# EAGLE library part 10M08SA (library New_Parts)
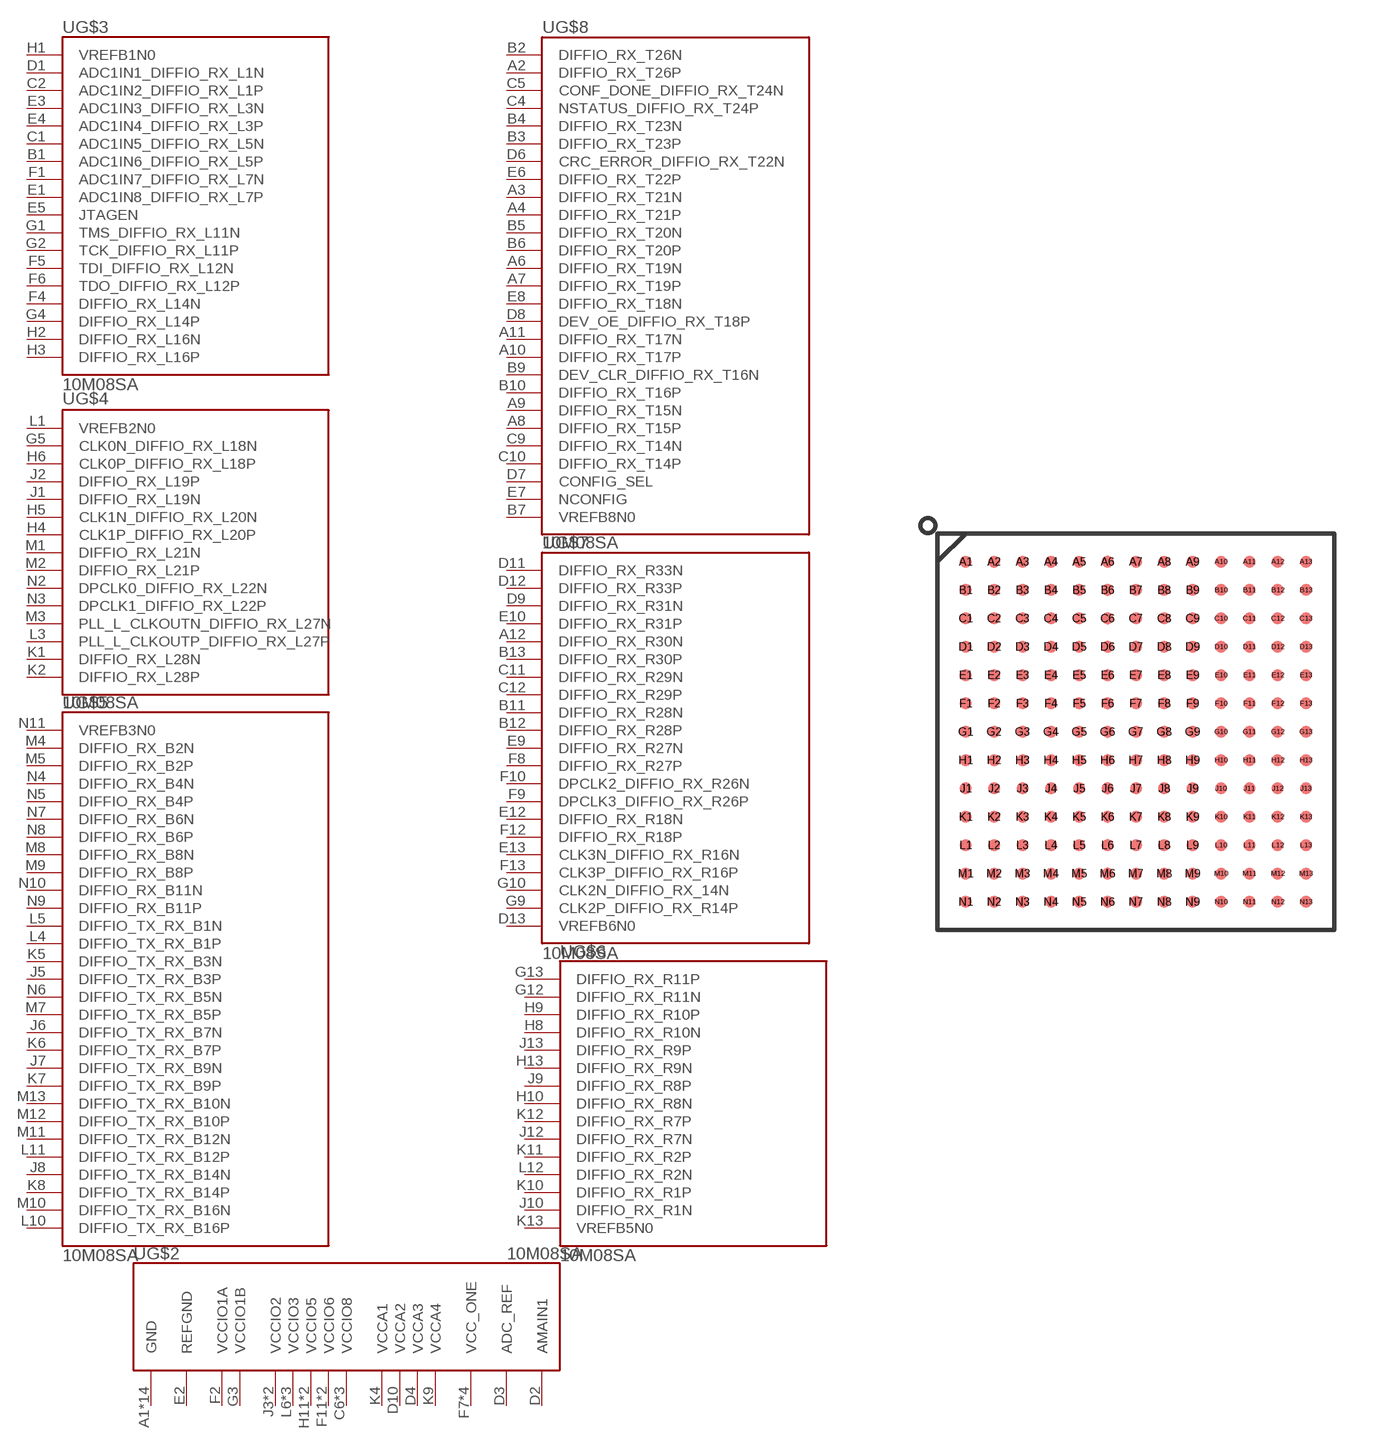
[diagram p1: symbol with the pads of UBGA_169; footprint UBGA_169]

Designator prefix U; gates G$2=10M08SA_PWR G$3=10M08SA_B1 G$4=10M08SA_B2 G$5=10M08SA_B3 G$6=10M08SA_B5 G$7=10M08SA_B6 G$8=10M08SA_B8

## 10M08SA (DIGIKEY_PART: 544-3110-ND; PROD_ID: IC-15931)  [UBGA_169]
A1  G$2:GND
A2  G$8:DIFFIO_RX_T26P
A3  G$8:DIFFIO_RX_T21N
A4  G$8:DIFFIO_RX_T21P
A6  G$8:DIFFIO_RX_T19N
A7  G$8:DIFFIO_RX_T19P
A8  G$8:DIFFIO_RX_T15P
A9  G$8:DIFFIO_RX_T15N
A10  G$8:DIFFIO_RX_T17P
A11  G$8:DIFFIO_RX_T17N
A12  G$7:DIFFIO_RX_R30N
A13  G$2:GND
B1  G$3:ADC1IN6_DIFFIO_RX_L5P
B2  G$8:DIFFIO_RX_T26N
B3  G$8:DIFFIO_RX_T23P
B4  G$8:DIFFIO_RX_T23N
B5  G$8:DIFFIO_RX_T20N
B6  G$8:DIFFIO_RX_T20P
B7  G$8:VREFB8N0
B8  G$2:GND
B9  G$8:DEV_CLR_DIFFIO_RX_T16N
B10  G$8:DIFFIO_RX_T16P
B11  G$7:DIFFIO_RX_R28N
B12  G$7:DIFFIO_RX_R28P
B13  G$7:DIFFIO_RX_R30P
C1  G$3:ADC1IN5_DIFFIO_RX_L5N
C2  G$3:ADC1IN2_DIFFIO_RX_L1P
C3  G$2:GND
C4  G$8:NSTATUS_DIFFIO_RX_T24P
C5  G$8:CONF_DONE_DIFFIO_RX_T24N
C6  G$2:VCCIO8
C7  G$2:VCCIO8
C8  G$2:VCCIO8
C9  G$8:DIFFIO_RX_T14N
C10  G$8:DIFFIO_RX_T14P
C11  G$7:DIFFIO_RX_R29N
C12  G$7:DIFFIO_RX_R29P
D1  G$3:ADC1IN1_DIFFIO_RX_L1N
D2  G$2:AMAIN1
D3  G$2:ADC_REF
D4  G$2:VCCA3
D5  G$2:GND
D6  G$8:CRC_ERROR_DIFFIO_RX_T22N
D7  G$8:CONFIG_SEL
D8  G$8:DEV_OE_DIFFIO_RX_T18P
D9  G$7:DIFFIO_RX_R31N
D10  G$2:VCCA2
D11  G$7:DIFFIO_RX_R33N
D12  G$7:DIFFIO_RX_R33P
D13  G$7:VREFB6N0
E1  G$3:ADC1IN8_DIFFIO_RX_L7P
E2  G$2:REFGND
E3  G$3:ADC1IN3_DIFFIO_RX_L3N
E4  G$3:ADC1IN4_DIFFIO_RX_L3P
E5  G$3:JTAGEN
E6  G$8:DIFFIO_RX_T22P
E7  G$8:NCONFIG
E8  G$8:DIFFIO_RX_T18N
E9  G$7:DIFFIO_RX_R27N
E10  G$7:DIFFIO_RX_R31P
E11  G$2:GND
E12  G$7:DIFFIO_RX_R18N
E13  G$7:CLK3N_DIFFIO_RX_R16N
F1  G$3:ADC1IN7_DIFFIO_RX_L7N
F2  G$2:VCCIO1A
F3  G$2:GND
F4  G$3:DIFFIO_RX_L14N
F5  G$3:TDI_DIFFIO_RX_L12N
F6  G$3:TDO_DIFFIO_RX_L12P
F7  G$2:VCC_ONE
F8  G$7:DIFFIO_RX_R27P
F9  G$7:DPCLK3_DIFFIO_RX_R26P
F10  G$7:DPCLK2_DIFFIO_RX_R26N
F11  G$2:VCCIO6
F12  G$7:DIFFIO_RX_R18P
F13  G$7:CLK3P_DIFFIO_RX_R16P
G1  G$3:TMS_DIFFIO_RX_L11N
G2  G$3:TCK_DIFFIO_RX_L11P
G3  G$2:VCCIO1B
G4  G$3:DIFFIO_RX_L14P
G5  G$4:CLK0N_DIFFIO_RX_L18N
G6  G$2:VCC_ONE
G7  G$2:GND
G8  G$2:VCC_ONE
G9  G$7:CLK2P_DIFFIO_RX_R14P
G10  G$7:CLK2N_DIFFIO_RX_14N
G11  G$2:VCCIO6
G12  G$6:DIFFIO_RX_R11N
G13  G$6:DIFFIO_RX_R11P
H1  G$3:VREFB1N0
H2  G$3:DIFFIO_RX_L16N
H3  G$3:DIFFIO_RX_L16P
H4  G$4:CLK1P_DIFFIO_RX_L20P
H5  G$4:CLK1N_DIFFIO_RX_L20N
H6  G$4:CLK0P_DIFFIO_RX_L18P
H7  G$2:VCC_ONE
H8  G$6:DIFFIO_RX_R10N
H9  G$6:DIFFIO_RX_R10P
H10  G$6:DIFFIO_RX_R8N
H11  G$2:VCCIO5
H12  G$2:GND
H13  G$6:DIFFIO_RX_R9N
J1  G$4:DIFFIO_RX_L19N
J2  G$4:DIFFIO_RX_L19P
J3  G$2:VCCIO2
J4  G$2:GND
J5  G$5:DIFFIO_TX_RX_B3P
J6  G$5:DIFFIO_TX_RX_B7N
J7  G$5:DIFFIO_TX_RX_B9N
J8  G$5:DIFFIO_TX_RX_B14N
J9  G$6:DIFFIO_RX_R8P
J10  G$6:DIFFIO_RX_R1N
J11  G$2:VCCIO5
J12  G$6:DIFFIO_RX_R7N
J13  G$6:DIFFIO_RX_R9P
K1  G$4:DIFFIO_RX_L28N
K2  G$4:DIFFIO_RX_L28P
K3  G$2:VCCIO2
K4  G$2:VCCA1
K5  G$5:DIFFIO_TX_RX_B3N
K6  G$5:DIFFIO_TX_RX_B7P
K7  G$5:DIFFIO_TX_RX_B9P
K8  G$5:DIFFIO_TX_RX_B14P
K9  G$2:VCCA4
K10  G$6:DIFFIO_RX_R1P
K11  G$6:DIFFIO_RX_R2P
K12  G$6:DIFFIO_RX_R7P
K13  G$6:VREFB5N0
L1  G$4:VREFB2N0
L3  G$4:PLL_L_CLKOUTP_DIFFIO_RX_L27P
L4  G$5:DIFFIO_TX_RX_B1P
L5  G$5:DIFFIO_TX_RX_B1N
L6  G$2:VCCIO3
L7  G$2:VCCIO3
L8  G$2:VCCIO3
L9  G$2:GND
L10  G$5:DIFFIO_TX_RX_B16P
L11  G$5:DIFFIO_TX_RX_B12P
L12  G$6:DIFFIO_RX_R2N
M1  G$4:DIFFIO_RX_L21N
M2  G$4:DIFFIO_RX_L21P
M3  G$4:PLL_L_CLKOUTN_DIFFIO_RX_L27N
M4  G$5:DIFFIO_RX_B2N
M5  G$5:DIFFIO_RX_B2P
M6  G$2:GND
M7  G$5:DIFFIO_TX_RX_B5P
M8  G$5:DIFFIO_RX_B8N
M9  G$5:DIFFIO_RX_B8P
M10  G$5:DIFFIO_TX_RX_B16N
M11  G$5:DIFFIO_TX_RX_B12N
M12  G$5:DIFFIO_TX_RX_B10P
M13  G$5:DIFFIO_TX_RX_B10N
N1  G$2:GND
N2  G$4:DPCLK0_DIFFIO_RX_L22N
N3  G$4:DPCLK1_DIFFIO_RX_L22P
N4  G$5:DIFFIO_RX_B4N
N5  G$5:DIFFIO_RX_B4P
N6  G$5:DIFFIO_TX_RX_B5N
N7  G$5:DIFFIO_RX_B6N
N8  G$5:DIFFIO_RX_B6P
N9  G$5:DIFFIO_RX_B11P
N10  G$5:DIFFIO_RX_B11N
N11  G$5:VREFB3N0
N13  G$2:GND

## Footprint UBGA_169 (pad centres in mm)
smd 0.34 x 0.34: A1 -9.6,0; A2 -8.8,0; A3 -8,0; A4 -7.2,0; A5 -6.4,0; A6 -5.6,0; A7 -4.8,0; A8 -4,0; A9 -3.2,0; A10 -2.4,0; A11 -1.6,0; A12 -0.8,0; A13 0,0; B1 -9.6,-0.8; B2 -8.8,-0.8; B3 -8,-0.8; B4 -7.2,-0.8; B5 -6.4,-0.8; B6 -5.6,-0.8; B7 -4.8,-0.8; B8 -4,-0.8; B9 -3.2,-0.8; B10 -2.4,-0.8; B11 -1.6,-0.8; B12 -0.8,-0.8; B13 0,-0.8; C1 -9.6,-1.6; C2 -8.8,-1.6; C3 -8,-1.6; C4 -7.2,-1.6; C5 -6.4,-1.6; C6 -5.6,-1.6; C7 -4.8,-1.6; C8 -4,-1.6; C9 -3.2,-1.6; C10 -2.4,-1.6; C11 -1.6,-1.6; C12 -0.8,-1.6; C13 0,-1.6; D1 -9.6,-2.4; D2 -8.8,-2.4; D3 -8,-2.4; D4 -7.2,-2.4; D5 -6.4,-2.4; D6 -5.6,-2.4; D7 -4.8,-2.4; D8 -4,-2.4; D9 -3.2,-2.4; D10 -2.4,-2.4; D11 -1.6,-2.4; D12 -0.8,-2.4; D13 0,-2.4; E1 -9.6,-3.2; E2 -8.8,-3.2; E3 -8,-3.2; E4 -7.2,-3.2; E5 -6.4,-3.2; E6 -5.6,-3.2; E7 -4.8,-3.2; E8 -4,-3.2; E9 -3.2,-3.2; E10 -2.4,-3.2; E11 -1.6,-3.2; E12 -0.8,-3.2; E13 0,-3.2; F1 -9.6,-4; F2 -8.8,-4; F3 -8,-4; F4 -7.2,-4; F5 -6.4,-4; F6 -5.6,-4; F7 -4.8,-4; F8 -4,-4; F9 -3.2,-4; F10 -2.4,-4; F11 -1.6,-4; F12 -0.8,-4; F13 0,-4; G1 -9.6,-4.8; G2 -8.8,-4.8; G3 -8,-4.8; G4 -7.2,-4.8; G5 -6.4,-4.8; G6 -5.6,-4.8; G7 -4.8,-4.8; G8 -4,-4.8; G9 -3.2,-4.8; G10 -2.4,-4.8; G11 -1.6,-4.8; G12 -0.8,-4.8; G13 0,-4.8; H1 -9.6,-5.6; H2 -8.8,-5.6; H3 -8,-5.6; H4 -7.2,-5.6; H5 -6.4,-5.6; H6 -5.6,-5.6; H7 -4.8,-5.6; H8 -4,-5.6; H9 -3.2,-5.6; H10 -2.4,-5.6; H11 -1.6,-5.6; H12 -0.8,-5.6; H13 0,-5.6; J1 -9.6,-6.4; J2 -8.8,-6.4; J3 -8,-6.4; J4 -7.2,-6.4; J5 -6.4,-6.4; J6 -5.6,-6.4; J7 -4.8,-6.4; J8 -4,-6.4; J9 -3.2,-6.4; J10 -2.4,-6.4; J11 -1.6,-6.4; J12 -0.8,-6.4; J13 0,-6.4; K1 -9.6,-7.2; K2 -8.8,-7.2; K3 -8,-7.2; K4 -7.2,-7.2; K5 -6.4,-7.2; K6 -5.6,-7.2; K7 -4.8,-7.2; K8 -4,-7.2; K9 -3.2,-7.2; K10 -2.4,-7.2; K11 -1.6,-7.2; K12 -0.8,-7.2; K13 0,-7.2; L1 -9.6,-8; L2 -8.8,-8; L3 -8,-8; L4 -7.2,-8; L5 -6.4,-8; L6 -5.6,-8; L7 -4.8,-8; L8 -4,-8; L9 -3.2,-8; L10 -2.4,-8; L11 -1.6,-8; L12 -0.8,-8; L13 0,-8; M1 -9.6,-8.8; M2 -8.8,-8.8; M3 -8,-8.8; M4 -7.2,-8.8; M5 -6.4,-8.8; M6 -5.6,-8.8; M7 -4.8,-8.8; M8 -4,-8.8; M9 -3.2,-8.8; M10 -2.4,-8.8; M11 -1.6,-8.8; M12 -0.8,-8.8; M13 0,-8.8; N1 -9.6,-9.6; N2 -8.8,-9.6; N3 -8,-9.6; N4 -7.2,-9.6; N5 -6.4,-9.6; N6 -5.6,-9.6; N7 -4.8,-9.6; N8 -4,-9.6; N9 -3.2,-9.6; N10 -2.4,-9.6; N11 -1.6,-9.6; N12 -0.8,-9.6; N13 0,-9.6